# EAGLE library part COMBUS (library chip)
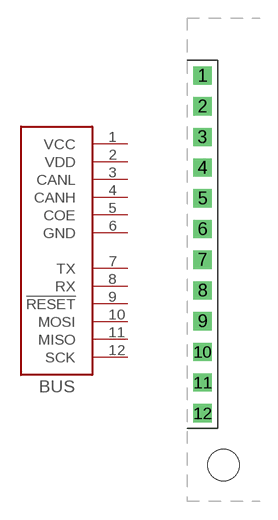
[diagram p0: symbol with the pads of COMBUS; footprint COMBUS]

Designator prefix -

## COMBUS  [COMBUS]
1  VCC  pwr
2  VDD  pwr
3  CANL
4  CANH
5  COE  in
6  GND  pwr
7  TX
8  RX
9  !RESET!
10  MOSI
11  MISO
12  SCK

## Footprint COMBUS (pad centres in mm)
drill 1 square: 1 1.27,15.24; 2 1.27,12.7; 3 1.27,10.16; 4 1.27,7.62; 5 1.27,5.08; 6 1.27,2.54; 7 1.27,0; 8 1.27,-2.54; 9 1.27,-5.08; 10 1.27,-7.62; 11 1.27,-10.16; 12 1.27,-12.7
hole 2.6 at 3,-17